# EAGLE library part 610X2621821 (library Eagle_BOARD-TO-BOARD_CONNECTORS (rev18b))
WR-PHD 2.54mm SMT Socket Header=>Code : Con_BTB_SHD_2.54_1_SMT_610x0421821(packageing:x = 0: Tube x = 3: Tape & Reel with Cap; 600 pcs/Reel) <http://katalog.we-online.de/media/images/eican/Con_BTB_SHD_2.54_1_SMT_6100xx21821_pf2.jpg> 6100xx21821 Details see: http://katalog.we-online.de/en/em/PHD_2_54_SMT_DUAL_SOCKET_HEADER_6100XX21821 6103xx21821 Details see: http://katalog.we-online.de/en/em/PHD_2_54_SMT_DUAL_SOCKET_HEADER_REEL_6103XX21821 2014 (C) Würth Elektronik
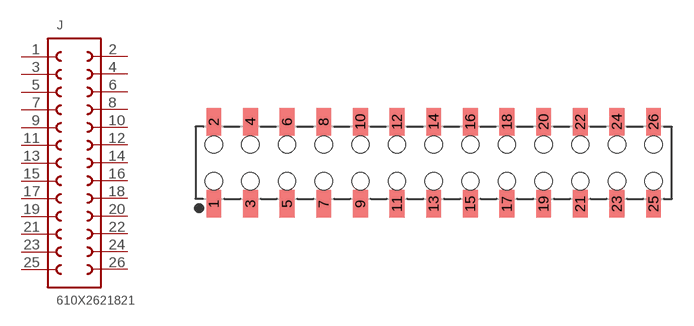
[diagram p211: symbol with the pads of 610X2621821; footprint 610X2621821]

Designator prefix J

## 610X2621821  [610X2621821]
1  1  pas
2  26  pas
3  2  pas
4  25  pas
5  3  pas
6  24  pas
7  4  pas
8  23  pas
9  5  pas
10  22  pas
11  6  pas
12  21  pas
13  7  pas
14  20  pas
15  8  pas
16  19  pas
17  9  pas
18  18  pas
19  10  pas
20  17  pas
21  11  pas
22  16  pas
23  12  pas
24  15  pas
25  13  pas
26  14  pas

## Footprint 610X2621821 (pad centres in mm)
WR-PHD 2.54mm Dual SMT Socket Header, 26 Pins
smd 1.02 x 1.9: 1 -15.24,-2.85; 2 -15.24,2.85; 3 -12.7,-2.85; 4 -12.7,2.85; 5 -10.16,-2.85; 6 -10.16,2.85; 7 -7.62,-2.85; 8 -7.62,2.85; 9 -5.08,-2.85; 10 -5.08,2.85; 11 -2.54,-2.85; 12 -2.54,2.85; 13 0,-2.85; 14 0,2.85; 15 2.54,-2.85; 16 2.54,2.85; 17 5.08,-2.85; 18 5.08,2.85; 19 7.62,-2.85; 20 7.62,2.85; 21 10.16,-2.85; 22 10.16,2.85; 23 12.7,-2.85; 24 12.7,2.85; 25 15.24,-2.85; 26 15.24,2.85
hole 1.2 at -15.24,-1.27
hole 1.2 at -12.7,-1.27
hole 1.2 at -12.7,1.27
hole 1.2 at -15.24,1.27
hole 1.2 at -10.16,-1.27
hole 1.2 at -10.16,1.27
hole 1.2 at -7.62,1.27
hole 1.2 at -7.62,-1.27
hole 1.2 at -5.08,-1.27
hole 1.2 at -5.08,1.27
hole 1.2 at -2.54,-1.27
hole 1.2 at -2.54,1.27
hole 1.2 at 0,1.27
hole 1.2 at 0,-1.27
hole 1.2 at 2.54,1.27
hole 1.2 at 2.54,-1.27
hole 1.2 at 5.08,-1.27
hole 1.2 at 5.08,1.27
hole 1.2 at 7.62,-1.27
hole 1.2 at 7.62,1.27
hole 1.2 at 10.16,1.27
hole 1.2 at 10.16,-1.27
hole 1.2 at 12.7,-1.27
hole 1.2 at 12.7,1.27
hole 1.2 at 15.24,-1.27
hole 1.2 at 15.24,1.27